# Altium integrated library ERJ3EKF6492V.IntLib: 1 symbol
Pins are listed as number, name and electrical type; pins without a type are passive.

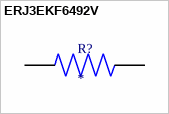
[diagram p0: symbol ERJ3EKF6492V]

## ERJ3EKF6492V
designator R?
MF: {'manufacturer': u'Panasonic Electronic Components'}; MP: ERJ3EKF6492V; Package: None; Price: None; Value: *; Availability: Unavailable
footprint RES_ERJ3EKF6492V
pins: 1, 2